# EAGLE library part HIP4086 (library rfc)
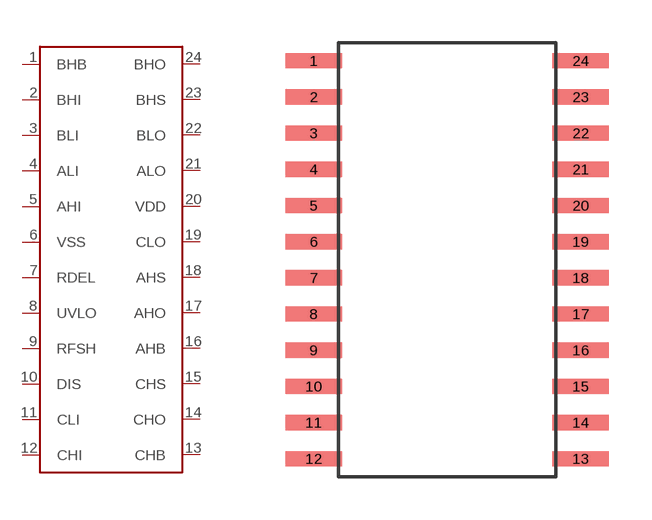
[diagram p4: symbol with the pads of HIP4086; footprint HIP4086]

Designator prefix -

## HIP4086  [HIP4086]
1  BHB
2  BHI
3  BLI
4  ALI
5  AHI
6  VSS
7  RDEL
8  UVLO
9  RFSH
10  DIS
11  CLI
12  CHI
13  CHB
14  CHO
15  CHS
16  AHB
17  AHO
18  AHS
19  CLO
20  VDD
21  ALO
22  BLO
23  BHS
24  BHO

## Footprint HIP4086 (pad centres in mm)
smd 1.981 x 0.533: 1 -4.686,6.985; 2 -4.686,5.715; 3 -4.686,4.445; 4 -4.686,3.175; 5 -4.686,1.905; 6 -4.686,0.635; 7 -4.686,-0.635; 8 -4.686,-1.905; 9 -4.686,-3.175; 10 -4.686,-4.445; 11 -4.686,-5.715; 12 -4.686,-6.985; 13 4.686,-6.985; 14 4.686,-5.715; 15 4.686,-4.445; 16 4.686,-3.175; 17 4.686,-1.905; 18 4.686,-0.635; 19 4.686,0.635; 20 4.686,1.905; 21 4.686,3.175; 22 4.686,4.445; 23 4.686,5.715; 24 4.686,6.985